# Altium footprint library Connector_FFC-FPC.PcbLib: 372 footprints (part 21 of 24)
Each footprint in its own frame and in the unit in brackets; x right, y up, seen from the top. Pads: shape width x height; smd on the part's side, far side on the other; paste and mask are expansions set on the pad; w line width, h text height; cw(c..) or ccw(c..) is an arc to the next point about the centre after c.
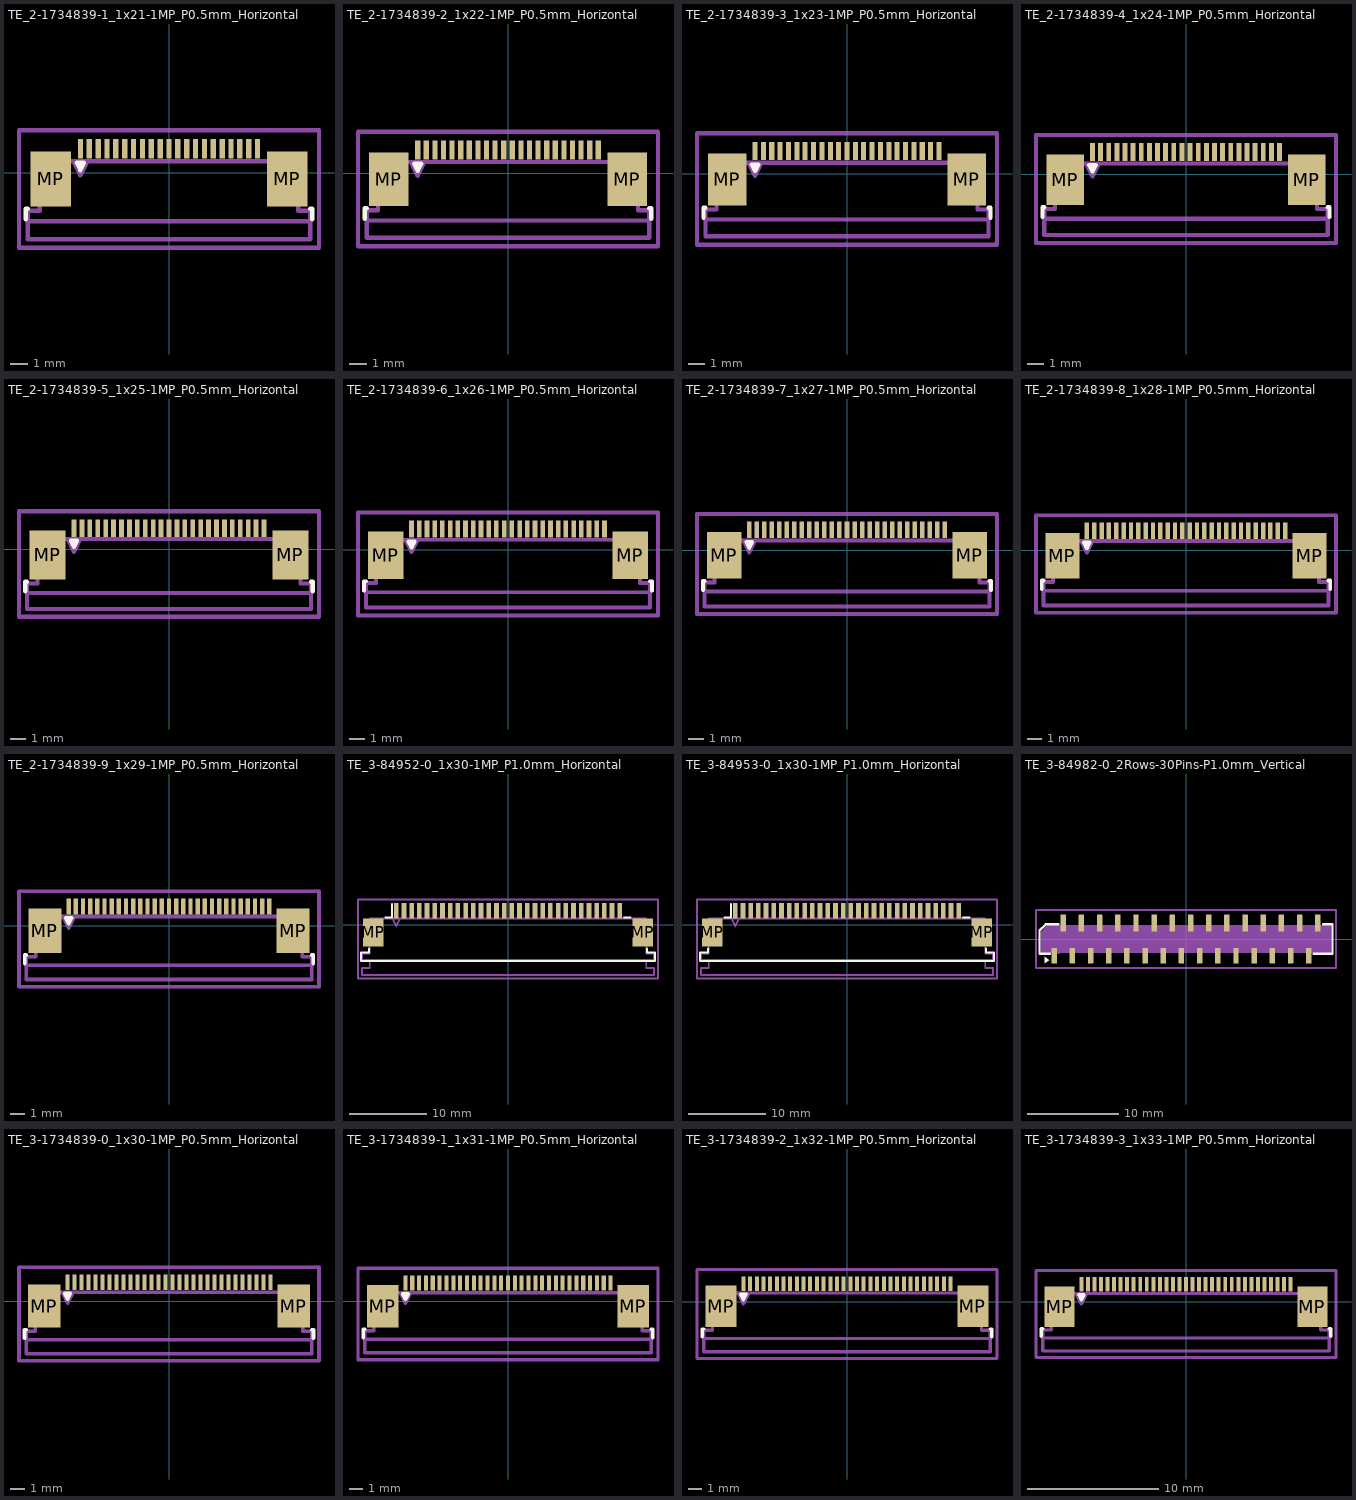
[diagram p20: the footprints below, top view; thin cyan lines are the x and y axes]

## TE_2-1734839-1_1x21-1MP_P0.5mm_Horizontal [mm]
pads (23):
  rect 0.3x1.1 smd: 1(-5,1.35) 2(-4.5,1.35) 3(-4,1.35) 4(-3.5,1.35) 5(-3,1.35) 6(-2.5,1.35) 7(-2,1.35) 8(-1.5,1.35) 9(-1,1.35) 10(-0.5,1.35) 11(0,1.35) 12(0.5,1.35) 13(1,1.35) 14(1.5,1.35) 15(2,1.35) 16(2.5,1.35) 17(3,1.35) 18(3.5,1.35) 19(4,1.35) 20(4.5,1.35) 21(5,1.35)
  rect 2.3x3.1 smd: MP(-6.67,-0.35) MP(6.67,-0.35)
F.SilkS:
  lines w0.254: -8.075,-2.64 -8.075,-2.04 -7.965,-2.04 ; 7.965,-2.04 8.075,-2.04 8.075,-2.64 ; -5.2,0.55 -4.8,0.55 -5,0.15 -5.2,0.55
Top Assembly:
  lines w0.254: -5.4,0.65 -5,-0.15 -4.6,0.65 ; -7.965,-3.75 7.965,-3.75 7.965,-2.15 7.31,-2.15 7.31,0.65 -7.31,0.65 -7.31,-2.15 -7.965,-2.15 -7.965,-3.75
  text "'.Designator'" at -4.047,-2.39 h1
Top Courtyard:
  lines w0.254: -8.47,-4.25 8.47,-4.25 8.47,2.41 -8.47,2.41 -8.47,-4.25
Top Designator:
  text ".Designator" at -7.618,-1.428 h1.52
Dwgs.User:
  lines w0.254: -7.855,-2.75 7.855,-2.75
  text "PCB Edge" at -1.728,-3.663 h0.5

## TE_2-1734839-2_1x22-1MP_P0.5mm_Horizontal [mm]
pads (24):
  rect 0.3x1.1 smd: 1(-5.25,1.35) 2(-4.75,1.35) 3(-4.25,1.35) 4(-3.75,1.35) 5(-3.25,1.35) 6(-2.75,1.35) 7(-2.25,1.35) 8(-1.75,1.35) 9(-1.25,1.35) 10(-0.75,1.35) 11(-0.25,1.35) 12(0.25,1.35) 13(0.75,1.35) 14(1.25,1.35) 15(1.75,1.35) 16(2.25,1.35) 17(2.75,1.35) 18(3.25,1.35) 19(3.75,1.35) 20(4.25,1.35) 21(4.75,1.35) 22(5.25,1.35)
  rect 2.3x3.1 smd: MP(-6.92,-0.35) MP(6.92,-0.35)
F.SilkS:
  lines w0.254: -8.325,-2.64 -8.325,-2.04 -8.215,-2.04 ; 8.215,-2.04 8.325,-2.04 8.325,-2.64 ; -5.45,0.55 -5.05,0.55 -5.25,0.15 -5.45,0.55
Top Assembly:
  lines w0.254: -5.65,0.65 -5.25,-0.15 -4.85,0.65 ; -8.215,-3.75 8.215,-3.75 8.215,-2.15 7.56,-2.15 7.56,0.65 -7.56,0.65 -7.56,-2.15 -8.215,-2.15 -8.215,-3.75
  text "'.Designator'" at -4.047,-2.39 h1
Top Courtyard:
  lines w0.254: -8.72,-4.25 8.72,-4.25 8.72,2.41 -8.72,2.41 -8.72,-4.25
Top Designator:
  text ".Designator" at -7.618,-1.428 h1.52
Dwgs.User:
  lines w0.254: -8.105,-2.75 8.105,-2.75
  text "PCB Edge" at -1.728,-3.663 h0.5

## TE_2-1734839-3_1x23-1MP_P0.5mm_Horizontal [mm]
pads (25):
  rect 0.3x1.1 smd: 1(-5.5,1.35) 2(-5,1.35) 3(-4.5,1.35) 4(-4,1.35) 5(-3.5,1.35) 6(-3,1.35) 7(-2.5,1.35) 8(-2,1.35) 9(-1.5,1.35) 10(-1,1.35) 11(-0.5,1.35) 12(0,1.35) 13(0.5,1.35) 14(1,1.35) 15(1.5,1.35) 16(2,1.35) 17(2.5,1.35) 18(3,1.35) 19(3.5,1.35) 20(4,1.35) 21(4.5,1.35) 22(5,1.35) 23(5.5,1.35)
  rect 2.3x3.1 smd: MP(-7.17,-0.35) MP(7.17,-0.35)
F.SilkS:
  lines w0.254: -8.575,-2.64 -8.575,-2.04 -8.465,-2.04 ; 8.465,-2.04 8.575,-2.04 8.575,-2.64 ; -5.7,0.55 -5.3,0.55 -5.5,0.15 -5.7,0.55
Top Assembly:
  lines w0.254: -5.9,0.65 -5.5,-0.15 -5.1,0.65 ; -8.465,-3.75 8.465,-3.75 8.465,-2.15 7.81,-2.15 7.81,0.65 -7.81,0.65 -7.81,-2.15 -8.465,-2.15 -8.465,-3.75
  text "'.Designator'" at -4.047,-2.39 h1
Top Courtyard:
  lines w0.254: -8.97,-4.25 8.97,-4.25 8.97,2.41 -8.97,2.41 -8.97,-4.25
Top Designator:
  text ".Designator" at -7.618,-1.428 h1.52
Dwgs.User:
  lines w0.254: -8.355,-2.75 8.355,-2.75
  text "PCB Edge" at -1.728,-3.663 h0.5

## TE_2-1734839-4_1x24-1MP_P0.5mm_Horizontal [mm]
pads (26):
  rect 0.3x1.1 smd: 1(-5.75,1.35) 2(-5.25,1.35) 3(-4.75,1.35) 4(-4.25,1.35) 5(-3.75,1.35) 6(-3.25,1.35) 7(-2.75,1.35) 8(-2.25,1.35) 9(-1.75,1.35) 10(-1.25,1.35) 11(-0.75,1.35) 12(-0.25,1.35) 13(0.25,1.35) 14(0.75,1.35) 15(1.25,1.35) 16(1.75,1.35) 17(2.25,1.35) 18(2.75,1.35) 19(3.25,1.35) 20(3.75,1.35) 21(4.25,1.35) 22(4.75,1.35) 23(5.25,1.35) 24(5.75,1.35)
  rect 2.3x3.1 smd: MP(-7.42,-0.35) MP(7.42,-0.35)
F.SilkS:
  lines w0.254: -8.825,-2.64 -8.825,-2.04 -8.715,-2.04 ; 8.715,-2.04 8.825,-2.04 8.825,-2.64 ; -5.95,0.55 -5.55,0.55 -5.75,0.15 -5.95,0.55
Top Assembly:
  lines w0.254: -6.15,0.65 -5.75,-0.15 -5.35,0.65 ; -8.715,-3.75 8.715,-3.75 8.715,-2.15 8.06,-2.15 8.06,0.65 -8.06,0.65 -8.06,-2.15 -8.715,-2.15 -8.715,-3.75
  text "'.Designator'" at -4.047,-2.39 h1
Top Courtyard:
  lines w0.254: -9.22,-4.25 9.22,-4.25 9.22,2.41 -9.22,2.41 -9.22,-4.25
Top Designator:
  text ".Designator" at -7.618,-1.428 h1.52
Dwgs.User:
  lines w0.254: -8.605,-2.75 8.605,-2.75
  text "PCB Edge" at -1.728,-3.663 h0.5

## TE_2-1734839-5_1x25-1MP_P0.5mm_Horizontal [mm]
pads (27):
  rect 0.3x1.1 smd: 1(-6,1.35) 2(-5.5,1.35) 3(-5,1.35) 4(-4.5,1.35) 5(-4,1.35) 6(-3.5,1.35) 7(-3,1.35) 8(-2.5,1.35) 9(-2,1.35) 10(-1.5,1.35) 11(-1,1.35) 12(-0.5,1.35) 13(0,1.35) 14(0.5,1.35) 15(1,1.35) 16(1.5,1.35) 17(2,1.35) 18(2.5,1.35) 19(3,1.35) 20(3.5,1.35) 21(4,1.35) 22(4.5,1.35) 23(5,1.35) 24(5.5,1.35) 25(6,1.35)
  rect 2.3x3.1 smd: MP(-7.67,-0.35) MP(7.67,-0.35)
F.SilkS:
  lines w0.254: -9.075,-2.64 -9.075,-2.04 -8.965,-2.04 ; 8.965,-2.04 9.075,-2.04 9.075,-2.64 ; -6.2,0.55 -5.8,0.55 -6,0.15 -6.2,0.55
Top Assembly:
  lines w0.254: -6.4,0.65 -6,-0.15 -5.6,0.65 ; -8.965,-3.75 8.965,-3.75 8.965,-2.15 8.31,-2.15 8.31,0.65 -8.31,0.65 -8.31,-2.15 -8.965,-2.15 -8.965,-3.75
  text "'.Designator'" at -4.047,-2.39 h1
Top Courtyard:
  lines w0.254: -9.47,-4.25 9.47,-4.25 9.47,2.41 -9.47,2.41 -9.47,-4.25
Top Designator:
  text ".Designator" at -7.618,-1.428 h1.52
Dwgs.User:
  lines w0.254: -8.855,-2.75 8.855,-2.75
  text "PCB Edge" at -1.728,-3.663 h0.5

## TE_2-1734839-6_1x26-1MP_P0.5mm_Horizontal [mm]
pads (28):
  rect 0.3x1.1 smd: 1(-6.25,1.35) 2(-5.75,1.35) 3(-5.25,1.35) 4(-4.75,1.35) 5(-4.25,1.35) 6(-3.75,1.35) 7(-3.25,1.35) 8(-2.75,1.35) 9(-2.25,1.35) 10(-1.75,1.35) 11(-1.25,1.35) 12(-0.75,1.35) 13(-0.25,1.35) 14(0.25,1.35) 15(0.75,1.35) 16(1.25,1.35) 17(1.75,1.35) 18(2.25,1.35) 19(2.75,1.35) 20(3.25,1.35) 21(3.75,1.35) 22(4.25,1.35) 23(4.75,1.35) 24(5.25,1.35) 25(5.75,1.35) 26(6.25,1.35)
  rect 2.3x3.1 smd: MP(-7.92,-0.35) MP(7.92,-0.35)
F.SilkS:
  lines w0.254: -9.325,-2.64 -9.325,-2.04 -9.215,-2.04 ; 9.215,-2.04 9.325,-2.04 9.325,-2.64 ; -6.45,0.55 -6.05,0.55 -6.25,0.15 -6.45,0.55
Top Assembly:
  lines w0.254: -6.65,0.65 -6.25,-0.15 -5.85,0.65 ; -9.215,-3.75 9.215,-3.75 9.215,-2.15 8.56,-2.15 8.56,0.65 -8.56,0.65 -8.56,-2.15 -9.215,-2.15 -9.215,-3.75
  text "'.Designator'" at -4.047,-2.39 h1
Top Courtyard:
  lines w0.254: -9.72,-4.25 9.72,-4.25 9.72,2.41 -9.72,2.41 -9.72,-4.25
Top Designator:
  text ".Designator" at -7.618,-1.428 h1.52
Dwgs.User:
  lines w0.254: -9.105,-2.75 9.105,-2.75
  text "PCB Edge" at -1.728,-3.663 h0.5

## TE_2-1734839-7_1x27-1MP_P0.5mm_Horizontal [mm]
pads (29):
  rect 0.3x1.1 smd: 1(-6.5,1.35) 2(-6,1.35) 3(-5.5,1.35) 4(-5,1.35) 5(-4.5,1.35) 6(-4,1.35) 7(-3.5,1.35) 8(-3,1.35) 9(-2.5,1.35) 10(-2,1.35) 11(-1.5,1.35) 12(-1,1.35) 13(-0.5,1.35) 14(0,1.35) 15(0.5,1.35) 16(1,1.35) 17(1.5,1.35) 18(2,1.35) 19(2.5,1.35) 20(3,1.35) 21(3.5,1.35) 22(4,1.35) 23(4.5,1.35) 24(5,1.35) 25(5.5,1.35) 26(6,1.35) 27(6.5,1.35)
  rect 2.3x3.1 smd: MP(-8.17,-0.35) MP(8.17,-0.35)
F.SilkS:
  lines w0.254: -9.575,-2.64 -9.575,-2.04 -9.465,-2.04 ; 9.465,-2.04 9.575,-2.04 9.575,-2.64 ; -6.7,0.55 -6.3,0.55 -6.5,0.15 -6.7,0.55
Top Assembly:
  lines w0.254: -6.9,0.65 -6.5,-0.15 -6.1,0.65 ; -9.465,-3.75 9.465,-3.75 9.465,-2.15 8.81,-2.15 8.81,0.65 -8.81,0.65 -8.81,-2.15 -9.465,-2.15 -9.465,-3.75
  text "'.Designator'" at -4.047,-2.39 h1
Top Courtyard:
  lines w0.254: -9.97,-4.25 9.97,-4.25 9.97,2.41 -9.97,2.41 -9.97,-4.25
Top Designator:
  text ".Designator" at -7.618,-1.428 h1.52
Dwgs.User:
  lines w0.254: -9.355,-2.75 9.355,-2.75
  text "PCB Edge" at -1.728,-3.663 h0.5

## TE_2-1734839-8_1x28-1MP_P0.5mm_Horizontal [mm]
pads (30):
  rect 0.3x1.1 smd: 1(-6.75,1.35) 2(-6.25,1.35) 3(-5.75,1.35) 4(-5.25,1.35) 5(-4.75,1.35) 6(-4.25,1.35) 7(-3.75,1.35) 8(-3.25,1.35) 9(-2.75,1.35) 10(-2.25,1.35) 11(-1.75,1.35) 12(-1.25,1.35) 13(-0.75,1.35) 14(-0.25,1.35) 15(0.25,1.35) 16(0.75,1.35) 17(1.25,1.35) 18(1.75,1.35) 19(2.25,1.35) 20(2.75,1.35) 21(3.25,1.35) 22(3.75,1.35) 23(4.25,1.35) 24(4.75,1.35) 25(5.25,1.35) 26(5.75,1.35) 27(6.25,1.35) 28(6.75,1.35)
  rect 2.3x3.1 smd: MP(-8.42,-0.35) MP(8.42,-0.35)
F.SilkS:
  lines w0.254: -9.825,-2.64 -9.825,-2.04 -9.715,-2.04 ; 9.715,-2.04 9.825,-2.04 9.825,-2.64 ; -6.95,0.55 -6.55,0.55 -6.75,0.15 -6.95,0.55
Top Assembly:
  lines w0.254: -7.15,0.65 -6.75,-0.15 -6.35,0.65 ; -9.715,-3.75 9.715,-3.75 9.715,-2.15 9.06,-2.15 9.06,0.65 -9.06,0.65 -9.06,-2.15 -9.715,-2.15 -9.715,-3.75
  text "'.Designator'" at -4.047,-2.39 h1
Top Courtyard:
  lines w0.254: -10.22,-4.25 10.22,-4.25 10.22,2.41 -10.22,2.41 -10.22,-4.25
Top Designator:
  text ".Designator" at -7.618,-1.428 h1.52
Dwgs.User:
  lines w0.254: -9.605,-2.75 9.605,-2.75
  text "PCB Edge" at -1.728,-3.663 h0.5

## TE_2-1734839-9_1x29-1MP_P0.5mm_Horizontal [mm]
pads (31):
  rect 0.3x1.1 smd: 1(-7,1.35) 2(-6.5,1.35) 3(-6,1.35) 4(-5.5,1.35) 5(-5,1.35) 6(-4.5,1.35) 7(-4,1.35) 8(-3.5,1.35) 9(-3,1.35) 10(-2.5,1.35) 11(-2,1.35) 12(-1.5,1.35) 13(-1,1.35) 14(-0.5,1.35) 15(0,1.35) 16(0.5,1.35) 17(1,1.35) 18(1.5,1.35) 19(2,1.35) 20(2.5,1.35) 21(3,1.35) 22(3.5,1.35) 23(4,1.35) 24(4.5,1.35) 25(5,1.35) 26(5.5,1.35) 27(6,1.35) 28(6.5,1.35) 29(7,1.35)
  rect 2.3x3.1 smd: MP(-8.67,-0.35) MP(8.67,-0.35)
F.SilkS:
  lines w0.254: -10.075,-2.64 -10.075,-2.04 -9.965,-2.04 ; 9.965,-2.04 10.075,-2.04 10.075,-2.64 ; -7.2,0.55 -6.8,0.55 -7,0.15 -7.2,0.55
Top Assembly:
  lines w0.254: -7.4,0.65 -7,-0.15 -6.6,0.65 ; -9.965,-3.75 9.965,-3.75 9.965,-2.15 9.31,-2.15 9.31,0.65 -9.31,0.65 -9.31,-2.15 -9.965,-2.15 -9.965,-3.75
  text "'.Designator'" at -4.047,-2.39 h1
Top Courtyard:
  lines w0.254: -10.47,-4.25 10.47,-4.25 10.47,2.41 -10.47,2.41 -10.47,-4.25
Top Designator:
  text ".Designator" at -7.618,-1.428 h1.52
Dwgs.User:
  lines w0.254: -9.855,-2.75 9.855,-2.75
  text "PCB Edge" at -1.728,-3.663 h0.5

## TE_3-84952-0_1x30-1MP_P1.0mm_Horizontal [mm]
pads (32):
  rect 0.61x2 smd: 1(-14.5,1.8) 2(-13.5,1.8) 3(-12.5,1.8) 4(-11.5,1.8) 5(-10.5,1.8) 6(-9.5,1.8) 7(-8.5,1.8) 8(-7.5,1.8) 9(-6.5,1.8) 10(-5.5,1.8) 11(-4.5,1.8) 12(-3.5,1.8) 13(-2.5,1.8) 14(-1.5,1.8) 15(-0.5,1.8) 16(0.5,1.8) 17(1.5,1.8) 18(2.5,1.8) 19(3.5,1.8) 20(4.5,1.8) 21(5.5,1.8) 22(6.5,1.8) 23(7.5,1.8) 24(8.5,1.8) 25(9.5,1.8) 26(10.5,1.8) 27(11.5,1.8) 28(12.5,1.8) 29(13.5,1.8) 30(14.5,1.8)
  rect 2.68x3.6 smd: MP(-17.49,-1) MP(17.49,-1)
F.SilkS:
  lines w0.254: -18.045,-3.06 -18.045,-3.6 -19.07,-3.6 -19.07,-4.71 19.07,-4.71 19.07,-3.6 18.045,-3.6 18.045,-3.06 ; -15.89,0.91 -15.065,0.91 -15.065,2.71 ; 15.065,0.91 15.89,0.91
Top Assembly:
  lines w0.254: -17.935,-4.6 -17.935,-5.61 -18.96,-5.61 -18.96,-6.5 18.96,-6.5 18.96,-5.61 17.935,-5.61 17.935,-4.6 ; -15,0.8 -14.5,-0.2 -14,0.8 ; -18.96,-4.6 18.96,-4.6 18.96,-3.71 17.935,-3.71 17.935,0.8 -17.935,0.8 -17.935,-3.71 -18.96,-3.71 -18.96,-4.6
  text "'.Designator'" at -4.047,-2.74 h1
Top Courtyard:
  lines w0.254: -19.46,-7 19.46,-7 19.46,3.3 -19.46,3.3 -19.46,-7
Top Designator:
  text ".Designator" at -7.618,-2.358 h1.52

## TE_3-84953-0_1x30-1MP_P1.0mm_Horizontal [mm]
pads (32):
  rect 0.61x2 smd: 1(-14.5,1.8) 2(-13.5,1.8) 3(-12.5,1.8) 4(-11.5,1.8) 5(-10.5,1.8) 6(-9.5,1.8) 7(-8.5,1.8) 8(-7.5,1.8) 9(-6.5,1.8) 10(-5.5,1.8) 11(-4.5,1.8) 12(-3.5,1.8) 13(-2.5,1.8) 14(-1.5,1.8) 15(-0.5,1.8) 16(0.5,1.8) 17(1.5,1.8) 18(2.5,1.8) 19(3.5,1.8) 20(4.5,1.8) 21(5.5,1.8) 22(6.5,1.8) 23(7.5,1.8) 24(8.5,1.8) 25(9.5,1.8) 26(10.5,1.8) 27(11.5,1.8) 28(12.5,1.8) 29(13.5,1.8) 30(14.5,1.8)
  rect 2.68x3.6 smd: MP(-17.49,-1) MP(17.49,-1)
F.SilkS:
  lines w0.254: -18.045,-3.06 -18.045,-3.6 -19.07,-3.6 -19.07,-4.71 19.07,-4.71 19.07,-3.6 18.045,-3.6 18.045,-3.06 ; -15.89,0.91 -15.065,0.91 -15.065,2.71 ; 15.065,0.91 15.89,0.91
Top Assembly:
  lines w0.254: -17.935,-4.6 -17.935,-5.61 -18.96,-5.61 -18.96,-6.5 18.96,-6.5 18.96,-5.61 17.935,-5.61 17.935,-4.6 ; -15,0.8 -14.5,-0.2 -14,0.8 ; -18.96,-4.6 18.96,-4.6 18.96,-3.71 17.935,-3.71 17.935,0.8 -17.935,0.8 -17.935,-3.71 -18.96,-3.71 -18.96,-4.6
  text "'.Designator'" at -4.047,-2.74 h1
Top Courtyard:
  lines w0.254: -19.46,-7 19.46,-7 19.46,3.3 -19.46,3.3 -19.46,-7
Top Designator:
  text ".Designator" at -7.618,-2.358 h1.52

## TE_3-84982-0_2Rows-30Pins-P1.0mm_Vertical [mm]
pads (30):
  rrect25% 0.6x1.7 smd: 1(-14.5,-1.85) 3(-12.5,-1.85) 5(-10.5,-1.85) 7(-8.5,-1.85) 9(-6.5,-1.85) 11(-4.5,-1.85) 13(-2.5,-1.85) 15(-0.5,-1.85) 17(1.5,-1.85) 19(3.5,-1.85) 21(5.5,-1.85) 23(7.5,-1.85) 25(9.5,-1.85) 27(11.5,-1.85) 29(13.5,-1.85)
  rrect25% 0.6x1.9 smd: 2(-13.5,1.75) 4(-11.5,1.75) 6(-9.5,1.75) 8(-7.5,1.75) 10(-5.5,1.75) 12(-3.5,1.75) 14(-1.5,1.75) 16(0.5,1.75) 18(2.5,1.75) 20(4.5,1.75) 22(6.5,1.75) 24(8.5,1.75) 26(10.5,1.75) 28(12.5,1.75) 30(14.5,1.75)
F.SilkS:
  region: -15.06,-2.31 -15.53,-2.65 -15.53,-1.97
  lines w0.254: -15,-1.61 -16.11,-1.61 -16.11,0.934 -15.434,1.61 -14.06,1.61 ; 14.06,-1.61 16.11,-1.61 16.11,1.61 15.06,1.61
Top Assembly:
  region: 16,-1.5 -16,-1.5 -16,0.75 -15.25,1.5 16,1.5
  lines w0.254: -15,-1.5 -14.5,-0.7 -14,-1.5
  text "'.Designator'" at -4.047,-0.84 h1
Top Courtyard:
  lines w0.254: -16.5,-3.2 16.5,-3.2 16.5,3.2 -16.5,3.2 -16.5,-3.2
Top Designator:
  text ".Designator" at -7.618,-0.508 h1.52

## TE_3-1734839-0_1x30-1MP_P0.5mm_Horizontal [mm]
pads (32):
  rect 0.3x1.1 smd: 1(-7.25,1.35) 2(-6.75,1.35) 3(-6.25,1.35) 4(-5.75,1.35) 5(-5.25,1.35) 6(-4.75,1.35) 7(-4.25,1.35) 8(-3.75,1.35) 9(-3.25,1.35) 10(-2.75,1.35) 11(-2.25,1.35) 12(-1.75,1.35) 13(-1.25,1.35) 14(-0.75,1.35) 15(-0.25,1.35) 16(0.25,1.35) 17(0.75,1.35) 18(1.25,1.35) 19(1.75,1.35) 20(2.25,1.35) 21(2.75,1.35) 22(3.25,1.35) 23(3.75,1.35) 24(4.25,1.35) 25(4.75,1.35) 26(5.25,1.35) 27(5.75,1.35) 28(6.25,1.35) 29(6.75,1.35) 30(7.25,1.35)
  rect 2.3x3.1 smd: MP(-8.92,-0.35) MP(8.92,-0.35)
F.SilkS:
  lines w0.254: -10.325,-2.64 -10.325,-2.04 -10.215,-2.04 ; 10.215,-2.04 10.325,-2.04 10.325,-2.64 ; -7.45,0.55 -7.05,0.55 -7.25,0.15 -7.45,0.55
Top Assembly:
  lines w0.254: -7.65,0.65 -7.25,-0.15 -6.85,0.65 ; -10.215,-3.75 10.215,-3.75 10.215,-2.15 9.56,-2.15 9.56,0.65 -9.56,0.65 -9.56,-2.15 -10.215,-2.15 -10.215,-3.75
  text "'.Designator'" at -4.047,-2.39 h1
Top Courtyard:
  lines w0.254: -10.72,-4.25 10.72,-4.25 10.72,2.41 -10.72,2.41 -10.72,-4.25
Top Designator:
  text ".Designator" at -7.618,-1.428 h1.52
Dwgs.User:
  lines w0.254: -10.105,-2.75 10.105,-2.75
  text "PCB Edge" at -1.728,-3.663 h0.5

## TE_3-1734839-1_1x31-1MP_P0.5mm_Horizontal [mm]
pads (33):
  rect 0.3x1.1 smd: 1(-7.5,1.35) 2(-7,1.35) 3(-6.5,1.35) 4(-6,1.35) 5(-5.5,1.35) 6(-5,1.35) 7(-4.5,1.35) 8(-4,1.35) 9(-3.5,1.35) 10(-3,1.35) 11(-2.5,1.35) 12(-2,1.35) 13(-1.5,1.35) 14(-1,1.35) 15(-0.5,1.35) 16(0,1.35) 17(0.5,1.35) 18(1,1.35) 19(1.5,1.35) 20(2,1.35) 21(2.5,1.35) 22(3,1.35) 23(3.5,1.35) 24(4,1.35) 25(4.5,1.35) 26(5,1.35) 27(5.5,1.35) 28(6,1.35) 29(6.5,1.35) 30(7,1.35) 31(7.5,1.35)
  rect 2.3x3.1 smd: MP(-9.17,-0.35) MP(9.17,-0.35)
F.SilkS:
  lines w0.254: -10.575,-2.64 -10.575,-2.04 -10.465,-2.04 ; 10.465,-2.04 10.575,-2.04 10.575,-2.64 ; -7.7,0.55 -7.3,0.55 -7.5,0.15 -7.7,0.55
Top Assembly:
  lines w0.254: -7.9,0.65 -7.5,-0.15 -7.1,0.65 ; -10.465,-3.75 10.465,-3.75 10.465,-2.15 9.81,-2.15 9.81,0.65 -9.81,0.65 -9.81,-2.15 -10.465,-2.15 -10.465,-3.75
  text "'.Designator'" at -4.047,-2.39 h1
Top Courtyard:
  lines w0.254: -10.97,-4.25 10.97,-4.25 10.97,2.41 -10.97,2.41 -10.97,-4.25
Top Designator:
  text ".Designator" at -7.618,-1.428 h1.52
Dwgs.User:
  lines w0.254: -10.355,-2.75 10.355,-2.75
  text "PCB Edge" at -1.728,-3.663 h0.5

## TE_3-1734839-2_1x32-1MP_P0.5mm_Horizontal [mm]
pads (34):
  rect 0.3x1.1 smd: 1(-7.75,1.35) 2(-7.25,1.35) 3(-6.75,1.35) 4(-6.25,1.35) 5(-5.75,1.35) 6(-5.25,1.35) 7(-4.75,1.35) 8(-4.25,1.35) 9(-3.75,1.35) 10(-3.25,1.35) 11(-2.75,1.35) 12(-2.25,1.35) 13(-1.75,1.35) 14(-1.25,1.35) 15(-0.75,1.35) 16(-0.25,1.35) 17(0.25,1.35) 18(0.75,1.35) 19(1.25,1.35) 20(1.75,1.35) 21(2.25,1.35) 22(2.75,1.35) 23(3.25,1.35) 24(3.75,1.35) 25(4.25,1.35) 26(4.75,1.35) 27(5.25,1.35) 28(5.75,1.35) 29(6.25,1.35) 30(6.75,1.35) 31(7.25,1.35) 32(7.75,1.35)
  rect 2.3x3.1 smd: MP(-9.42,-0.35) MP(9.42,-0.35)
F.SilkS:
  lines w0.254: -10.825,-2.64 -10.825,-2.04 -10.715,-2.04 ; 10.715,-2.04 10.825,-2.04 10.825,-2.64 ; -7.95,0.55 -7.55,0.55 -7.75,0.15 -7.95,0.55
Top Assembly:
  lines w0.254: -8.15,0.65 -7.75,-0.15 -7.35,0.65 ; -10.715,-3.75 10.715,-3.75 10.715,-2.15 10.06,-2.15 10.06,0.65 -10.06,0.65 -10.06,-2.15 -10.715,-2.15 -10.715,-3.75
  text "'.Designator'" at -4.047,-2.39 h1
Top Courtyard:
  lines w0.254: -11.22,-4.25 11.22,-4.25 11.22,2.41 -11.22,2.41 -11.22,-4.25
Top Designator:
  text ".Designator" at -7.618,-1.428 h1.52
Dwgs.User:
  lines w0.254: -10.605,-2.75 10.605,-2.75
  text "PCB Edge" at -1.728,-3.663 h0.5

## TE_3-1734839-3_1x33-1MP_P0.5mm_Horizontal [mm]
pads (35):
  rect 0.3x1.1 smd: 1(-8,1.35) 2(-7.5,1.35) 3(-7,1.35) 4(-6.5,1.35) 5(-6,1.35) 6(-5.5,1.35) 7(-5,1.35) 8(-4.5,1.35) 9(-4,1.35) 10(-3.5,1.35) 11(-3,1.35) 12(-2.5,1.35) 13(-2,1.35) 14(-1.5,1.35) 15(-1,1.35) 16(-0.5,1.35) 17(0,1.35) 18(0.5,1.35) 19(1,1.35) 20(1.5,1.35) 21(2,1.35) 22(2.5,1.35) 23(3,1.35) 24(3.5,1.35) 25(4,1.35) 26(4.5,1.35) 27(5,1.35) 28(5.5,1.35) 29(6,1.35) 30(6.5,1.35) 31(7,1.35) 32(7.5,1.35) 33(8,1.35)
  rect 2.3x3.1 smd: MP(-9.67,-0.35) MP(9.67,-0.35)
F.SilkS:
  lines w0.254: -11.075,-2.64 -11.075,-2.04 -10.965,-2.04 ; 10.965,-2.04 11.075,-2.04 11.075,-2.64 ; -8.2,0.55 -7.8,0.55 -8,0.15 -8.2,0.55
Top Assembly:
  lines w0.254: -8.4,0.65 -8,-0.15 -7.6,0.65 ; -10.965,-3.75 10.965,-3.75 10.965,-2.15 10.31,-2.15 10.31,0.65 -10.31,0.65 -10.31,-2.15 -10.965,-2.15 -10.965,-3.75
  text "'.Designator'" at -4.047,-2.39 h1
Top Courtyard:
  lines w0.254: -11.47,-4.25 11.47,-4.25 11.47,2.41 -11.47,2.41 -11.47,-4.25
Top Designator:
  text ".Designator" at -7.618,-1.428 h1.52
Dwgs.User:
  lines w0.254: -10.855,-2.75 10.855,-2.75
  text "PCB Edge" at -1.728,-3.663 h0.5